# Altium footprint library myPcbLib1.PcbLib: 25 footprints (part 1 of 2)
Each footprint in its own frame and in the unit in brackets; x right, y up, seen from the top. Pads: shape width x height; smd on the part's side, far side on the other; paste and mask are expansions set on the pad; w line width, h text height; cw(c..) or ccw(c..) is an arc to the next point about the centre after c.
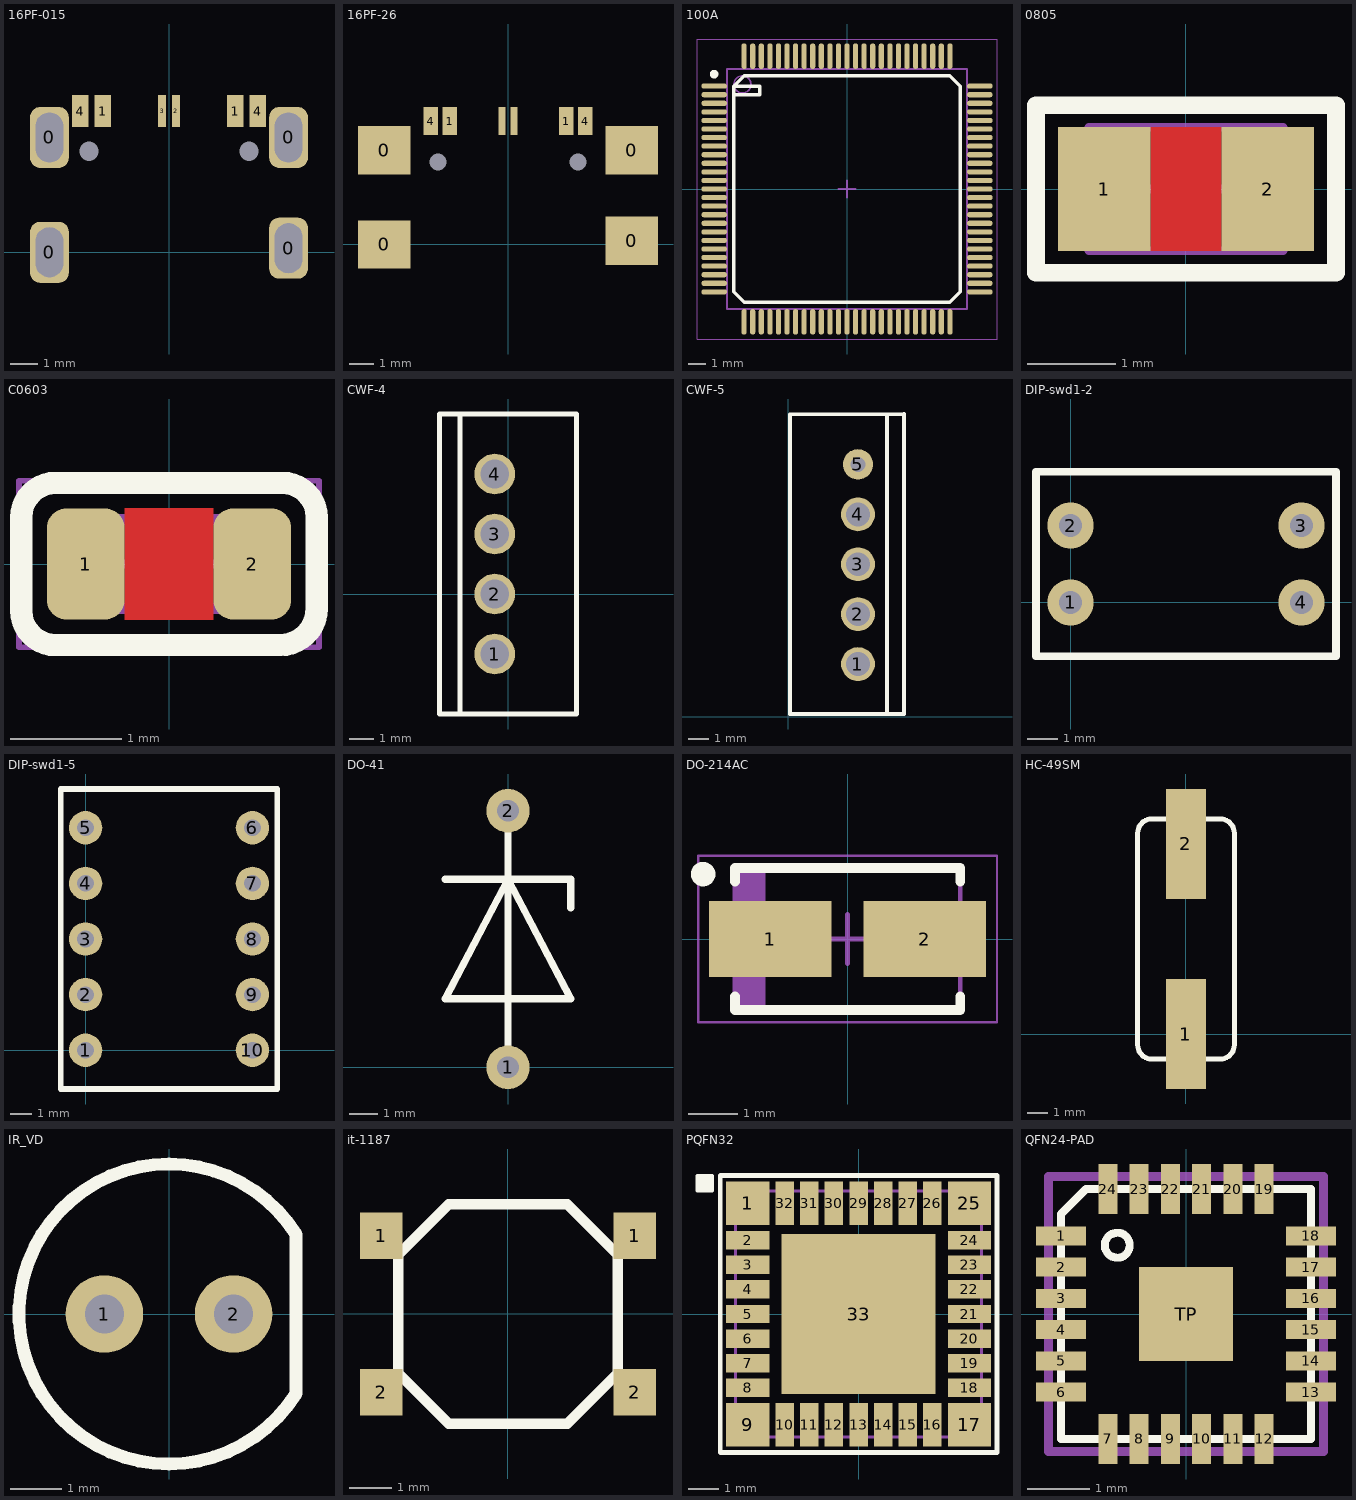
[diagram p0: the footprints below, top view; thin cyan lines are the x and y axes]

## 16PF-015 [mm] "USB-Type C"
pads (12):
  rrect50% 1.4x2.2 hole 1 slot 1.8 at 90 deg: 0(-4.32,0) 0(-4.32,4.15) 0(4.32,0.15) 0(4.32,4.15)
  rect 0.6x1.15 smd: 1(-2.4,5.1) 1(2.4,5.1) 4(-3.2,5.1) 4(3.2,5.1)
  rect 0.3x1.15 smd: 2(0.25,5.1) 3(-0.25,5.1)
  oval 0x0.35 hole 0.7: -1(-2.89,3.65) -1(2.89,3.65)

## 16PF-26 [mm] "USB-Type C"
pads (12):
  rect 2.18x2 smd: 0(-5.11,0) 0(-5.11,3.9) 0(5.11,0.15) 0(5.11,3.9)
  rect 0.6x1.15 smd: 1(-2.4,5.1) 1(2.4,5.1) 4(-3.2,5.1) 4(3.2,5.1)
  rect 0.3x1.15 smd: 2(0.25,5.1) 3(-0.25,5.1)
  oval 0x0.35 hole 0.7: -1(-2.89,3.4) -1(2.89,3.4)

## 100A [mm] "atmega2560"
height 1.2
pads (100):
  oval 1.5x0.3 smd: 1(-7.75,6) 2(-7.75,5.5) 3(-7.75,5) 4(-7.75,4.5) 5(-7.75,4) 6(-7.75,3.5) 7(-7.75,3) 8(-7.75,2.5) 9(-7.75,2) 10(-7.75,1.5) 11(-7.75,1) 12(-7.75,0.5) 13(-7.75,0) 14(-7.75,-0.5) 15(-7.75,-1) 16(-7.75,-1.5) 17(-7.75,-2) 18(-7.75,-2.5) 19(-7.75,-3) 20(-7.75,-3.5) 21(-7.75,-4) 22(-7.75,-4.5) 23(-7.75,-5) 24(-7.75,-5.5) 25(-7.75,-6) 51(7.75,-6) 52(7.75,-5.5) 53(7.75,-5) 54(7.75,-4.5) 55(7.75,-4) 56(7.75,-3.5) 57(7.75,-3) 58(7.75,-2.5) 59(7.75,-2) 60(7.75,-1.5) 61(7.75,-1) 62(7.75,-0.5) 63(7.75,0) 64(7.75,0.5) 65(7.75,1) 66(7.75,1.5) 67(7.75,2) 68(7.75,2.5) 69(7.75,3) 70(7.75,3.5) 71(7.75,4) 72(7.75,4.5) 73(7.75,5) 74(7.75,5.5) 75(7.75,6)
  oval 0.3x1.5 smd: 26(-6,-7.75) 27(-5.5,-7.75) 28(-5,-7.75) 29(-4.5,-7.75) 30(-4,-7.75) 31(-3.5,-7.75) 32(-3,-7.75) 33(-2.5,-7.75) 34(-2,-7.75) 35(-1.5,-7.75) 36(-1,-7.75) 37(-0.5,-7.75) 38(0,-7.75) 39(0.5,-7.75) 40(1,-7.75) 41(1.5,-7.75) 42(2,-7.75) 43(2.5,-7.75) 44(3,-7.75) 45(3.5,-7.75) 46(4,-7.75) 47(4.5,-7.75) 48(5,-7.75) 49(5.5,-7.75) 50(6,-7.75) 76(6,7.75) 77(5.5,7.75) 78(5,7.75) 79(4.5,7.75) 80(4,7.75) 81(3.5,7.75) 82(3,7.75) 83(2.5,7.75) 84(2,7.75) 85(1.5,7.75) 86(1,7.75) 87(0.5,7.75) 88(0,7.75) 89(-0.5,7.75) 90(-1,7.75) 91(-1.5,7.75) 92(-2,7.75) 93(-2.5,7.75) 94(-3,7.75) 95(-3.5,7.75) 96(-4,7.75) 97(-4.5,7.75) 98(-5,7.75) 99(-5.5,7.75) 100(-6,7.75)
Top Overlay:
  circle w0.25: c-7.75,6.7 r0.125
  lines w0.2: -6.6,5.5 -5.1,5.5 -5.1,6 -6.6,6 ; -6.6,6 -6.6,-6 -6,-6.6 6,-6.6 6.6,-6 6.6,6 6,6.6 -6,6.6 -6.6,6
Top Mechanical 9/Mechanical 10:
  text ".Comment" at -4.398,4.056 h1.52
  text ".Designator" at -4.398,5.216 h1.52
Top Mechanical 13/Mechanical 14:
  circle w0.1: c-6.1,6.1 r0.5
  lines w0.1: -7,-7 -7,7 7,7 7,-7 -7,-7
Mechanical 15:
  lines w0.05: -8.75,-8.75 -8.75,8.75 8.75,8.75 8.75,-8.75 -8.75,-8.75
  lines w0.1: -0.5,0 0.5,0 ; 0,-0.5 0,0.5
3D body "CQFP50P1600X1600X120-100N.step": height 1.15, standoff 0, extent -8.125,-8.125 8.125,8.125

## 0805 [mm] "Chip Resistor, 2-Leads, Body 2,10x1,30mm, IPC Medium Density"
height 0.55
pads (2):
  rect 1.05x1.4 smd: 1(-0.925,0) 2(0.925,0)
Top Layer:
  pour cut-out: -0.4,0.7 0.4,0.7 0.4,-0.7 -0.4,-0.7
Top Overlay:
  lines w0.2: -1.7,-0.95 1.7,-0.95 1.7,0.95 -1.7,0.95 -1.7,-0.95
Top Mechanical 9/Mechanical 10:
  text ".Designator" at -1.325,0.175 h0.8
  text ".Comment" at -1.075,-0.375 h0.6
Top Mechanical 11/Mechanical 12:
  lines w0.1: -1.1,-0.7 1.1,-0.7 1.1,0.7 -1.1,0.7 -1.1,-0.7
Mechanical 15:
  lines w0.05: -1.7,-0.95 -1.7,0.95 1.7,0.95 1.7,-0.95 -1.7,-0.95
  lines w0.1: -0.5,0 0.5,0 ; 0,-0.5 0,0.5
3D body "R0805.step": height 0.55, standoff 0, extent -1.2,-0.625 1.2,0.625

## C0603 [mm]
height 0.9
pads (2):
  rrect50% 0.7x1 smd: 1(-0.75,0) 2(0.75,0)
Top Layer:
  pour cut-out: -0.4,0.5 0.4,0.5 0.4,-0.5 -0.4,-0.5
Top Overlay:
  lines w0.2: -1.33,-0.42 ccw(c-1.02,-0.42) -1.02,-0.73 1,-0.73 ccw(c1,-0.4) 1.33,-0.4 1.33,0.42 ccw(c1.02,0.42) 1.02,0.73 -1.02,0.73 ccw(c-1.02,0.42) -1.33,0.42 -1.33,-0.42
Top Mechanical 9/Mechanical 10:
  text ".Designator" at -1.05,0.15 h0.8
  text ".Comment" at -0.925,-0.4 h0.6
Top Mechanical 11/Mechanical 12:
  lines w0.1: -0.8,-0.4 0.8,-0.4 0.8,0.4 -0.8,0.4 -0.8,-0.4
Mechanical 15:
  lines w0.05: -1.35,-0.75 1.35,-0.75 1.35,0.75 -1.35,0.75 -1.35,-0.75
  lines w0.1: -0.375,0 0.375,0 ; 0,-0.4 0,0.4
3D body "CAPC0603.STEP": height 0.9, standoff 0, extent -0.8,-0.4 0.8,0.4

## CWF-4 [mm]
pads (4):
  round 1.7 hole 1.2: 1(-0.55,-2.5) 2(-0.55,0) 3(-0.55,2.5) 4(-0.55,5)
Top Overlay:
  lines w0.2: -2,-5 -2,7.5 ; -2.85,-5 2.85,-5 2.85,7.5 -2.85,7.5 -2.85,-5
3D body "CWF_4_V.STEP": height 7.7, standoff -1, extent -2.8,-5.05 2.9,7.45

## CWF-5 [mm]
pads (5):
  round 1.7 hole 1.2: 1(3.5,2.65) 2(3.5,5.15) 3(3.5,7.65) 4(3.5,10.15)
  round 1.524 hole 0.762: 5(3.5,12.65)
Top Overlay:
  lines w0.2: 4.95,0.15 4.95,14.55 4.95,15.15 ; 0.1,0.15 5.8,0.15 5.8,14.55 5.8,15.175 0.1,15.15 0.1,14.55 0.1,0.15
3D body "User Library-DS1069-5 CWF-5.step": height 7, standoff -3.5, extent 0.05,0.15 5.8,15.15

## DIP-swd1-2 [mil] "SWD1-2"
pads (4):
  round 60 hole 30: 1(0,0) 2(0,100) 3(300,100) 4(300,0)
Top Overlay:
  lines w10: -44.88,-69.69 344.88,-69.69 344.88,169.69 -44.88,169.69 -44.88,-69.69

## DIP-swd1-5 [mil] "SWD1-5"
pads (10):
  round 60 hole 30: 1(0,0) 2(0,100) 3(0,200) 4(0,300) 5(0,400) 6(300,400) 7(300,300) 8(300,200) 9(300,100) 10(300,0)
Top Overlay:
  lines w10: -44.88,-69.69 344.88,-69.69 344.88,469.69 -44.88,469.69 -44.88,-69.69

## DO-41 [mil] "zener diode"
pads (2):
  round 60 hole 30: 1(0,0) 2(0,354.33)
Top Overlay:
  lines w10: -86.61,259.84 0,259.82 -86.61,94.49 0,94.49 86.61,94.49 0,259.84 86.61,259.84 86.61,220.47 ; 0,0 0,354.33

## DO-214AC [mm] "Molded Diode, 2-Leads, Body 4,30x2,70mm, IPC Medium Density"
height 2.44
pads (2):
  rect 2.5x1.55 smd: 1(-1.575,0) 2(1.575,0)
Top Overlay:
  circle w0.25: c-2.95,1.325 r0.125
  lines w0.2: -2.3,-1.175 -2.3,-1.45 2.3,-1.45 2.3,-1.175 ; -2.3,1.175 -2.3,1.45 2.3,1.45 2.3,1.175
Top Mechanical 13/Mechanical 14:
  rectangle: -2.3,-1.45 -1.681,1.45
  lines w0.1: -2.3,-1.45 2.3,-1.45 2.3,1.45 -2.3,1.45 -2.3,-1.45
Mechanical 15:
  lines w0.05: -3.05,-1.7 3.05,-1.7 3.05,1.7 -3.05,1.7 -3.05,-1.7
  lines w0.1: -0.5,0 0.5,0 ; 0,-0.5 0,0.5
3D body: height 2.44, standoff 0, extent -2.3,-1.45 2.3,1.45

## HC-49SM [mm] "кв резонатор"
pads (2):
  rect 2x5.5 smd: 1(0,0) 2(0,9.5)
Top Overlay:
  lines w0.254: -2.415,-0.55 ccw(c-1.715,-0.55) -1.715,-1.25 1.715,-1.25 ccw(c1.715,-0.55) 2.415,-0.55 2.415,10.05 ccw(c1.715,10.05) 1.715,10.75 -1.715,10.75 ccw(c-1.715,10.05) -2.415,10.05 -2.415,-0.55

## IR_VD [mil]
pads (2):
  round 60 hole 30: 1(-50,0) 2(50,0)
Top Overlay:
  lines w10: 98.49,-61.55 cw(c0,0) 98.49,61.55 98.49,-61.55
Top Mechanical 9/Mechanical 10:
  text ".Designator" at -100.33,60.66 h60
  text ".Comment" at -100.33,15 h60
3D body "SW3DPS-5MM LED RED-DEFAULT.X_T": height 338.58, standoff -196.85, extent -100.26,-100.39 100.26,100.39

## it-1187 [mm] "switch"
pads (4):
  rect 1x1.1 smd: 1(-3,1.85) 1(3,1.85) 2(-3,-1.85) 2(3,-1.85)
Top Overlay:
  lines w0.254: -2.6,-1.4 -1.4,-2.6 1.4,-2.6 2.6,-1.4 2.6,1.4 1.4,2.6 -1.4,2.6 -2.6,1.4 -2.6,-1.4

## PQFN32 [mm]
pads (33):
  rect 1.4x1.4 smd mask+0: 1(-3.6,3.6) 9(-3.6,-3.6) 17(3.6,-3.6) 25(3.6,3.6)
  rect 1.4x0.6 smd mask+0: 2(-3.6,2.4) 3(-3.6,1.6) 4(-3.6,0.8) 5(-3.6,0) 6(-3.6,-0.8) 7(-3.6,-1.6) 8(-3.6,-2.4) 18(3.6,-2.4) 19(3.6,-1.6) 20(3.6,-0.8) 21(3.6,0) 22(3.6,0.8) 23(3.6,1.6) 24(3.6,2.4)
  rect 0.6x1.4 smd mask+0: 10(-2.4,-3.6) 11(-1.6,-3.6) 12(-0.8,-3.6) 13(0,-3.6) 14(0.8,-3.6) 15(1.6,-3.6) 16(2.4,-3.6) 26(2.4,3.6) 27(1.6,3.6) 28(0.8,3.6) 29(0,3.6) 30(-0.8,3.6) 31(-1.6,3.6) 32(-2.4,3.6)
  rect 5x5.2 smd mask+0: 33(0,0)
Top Overlay:
  rectangle: -5.25,4 -4.75,4.5
  lines w0.1: -5.25,4 -5.25,4.5 -4.75,4.5 -4.75,4 -5.25,4
  lines w0.15: -4.5,-4.5 -4.5,4.5 4.5,4.5 4.5,-4.5 -4.5,-4.5
Top Mechanical 9/Mechanical 10:
  text ".Comment" at 1.5,-5.5 h0.6
  text ".Designator" at -0.5,5 h0.8
Top Mechanical 11/Mechanical 12:
  rectangle: -4,3 -3,4
  lines w0.1: -4,3 -3,3 -3,4 ; -4,-4 -4,4 4,4 4,-4 -4,-4
3D body "MC33926 8X8X2.STEP": height 2.1, standoff -0.05, extent -4,-4 4,4

## QFN24-PAD [mm] "CP2104(Primary)"
pads (25):
  rect 0.8x0.3 smd: 1(-2,1.25) 2(-2,0.75) 3(-2,0.25) 4(-2,-0.25) 5(-2,-0.75) 6(-2,-1.25) 13(2,-1.25) 14(2,-0.75) 15(2,-0.25) 16(2,0.25) 17(2,0.75) 18(2,1.25)
  rect 0.3x0.8 smd: 7(-1.25,-2) 8(-0.75,-2) 9(-0.25,-2) 10(0.25,-2) 11(0.75,-2) 12(1.25,-2) 19(1.25,2) 20(0.75,2) 21(0.25,2) 22(-0.25,2) 23(-0.75,2) 24(-1.25,2)
  rect 1.5x1.5 smd: TP(0,0)
Top Overlay:
  circle w0.127: c-1.1,1.1 r0.2
  lines w0.127: -2,-2 2,-2 2,2 -1.6,2 -2,1.6 -2,-2
Top Component Outline:
  lines w0.15: -2.2,-2.2 -2.2,2.2 2.2,2.2 2.2,-2.2 -2.2,-2.2
Top Designator:
  text ".Designator" at -1.456,-0.508 h0.8
Top Mechanical 7/Mechanical 8:
  text ".Comment" at -1,-1.4 h0.6
3D body "User Library-QFN24_4x4x0_75_p0_5.STEP": height 0.75, standoff 0, extent -2.002,-2.002 2.002,2.002